# Altium footprint library RSCM17100Kxxx.PcbLib: 1 footprints
Each footprint in its own frame and in the unit in brackets; x right, y up, seen from the top. Pads: shape width x height; smd on the part's side, far side on the other; paste and mask are expansions set on the pad; w line width, h text height; cw(c..) or ccw(c..) is an arc to the next point about the centre after c.
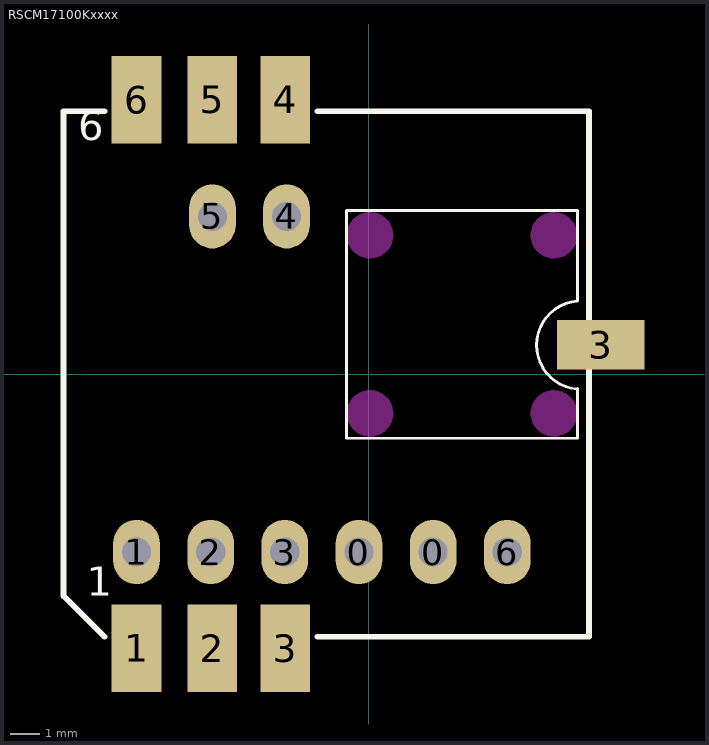
[diagram p0: the footprint, top view; thin cyan lines are the x and y axes]

## RSCM17100Kxxxx [mm]
pads (15):
  oval 1.6x2.2 hole 1: 0(-0.33,-6.1) 0(2.21,-6.1) 1(-7.95,-6.1) 2(-5.41,-6.1) 3(-2.87,-6.1) 4(-2.81,5.4) 5(-5.35,5.4) 6(4.75,-6.1)
  rect 1.7x3 smd: 1(-7.95,-9.4) 2(-5.35,-9.4) 3(-2.85,-9.4) 4(-2.85,9.4) 5(-5.35,9.4) 6(-7.95,9.4)
  rect 3x1.7 smd: 3(7.95,1)
Top Overlay:
  lines w0.1: 7.149,-0.517 cw(c7.269,0.991) 7.15,2.5 7.15,5.6 -0.75,5.6 -0.75,-2.2 7.15,-2.2 7.15,-0.5
  lines w0.2: -9.05,-9 -10.45,-7.6 -10.45,9 -9.05,9 ; -1.75,-9 7.55,-9 7.55,9 -1.75,9
  text "6" at -9.95,8 h1
  text "1" at -9.65,-7.6 h1
Keep-Out Layer:
  circle w0.1: c0.05,4.75 r0.75
  circle w0.1: c6.35,-1.35 r0.75
  circle w0.1: c6.35,4.75 r0.75
  circle w0.1: c0.05,-1.35 r0.75
  board cut-out: -0.706,4.75 -0.681,4.554 -0.605,4.372 -0.485,4.215 -0.328,4.095 -0.146,4.019 0.05,3.994 0.246,4.019 0.428,4.095 0.585,4.215 0.705,4.372 0.781,4.554 0.806,4.75 0.781,4.946 0.705,5.128 0.585,5.285 0.428,5.405 0.246,5.481 0.05,5.506 -0.146,5.481 -0.328,5.405 -0.485,5.285 -0.605,5.128 -0.681,4.946
  board cut-out: 5.594,-1.35 5.619,-1.546 5.695,-1.728 5.815,-1.885 5.972,-2.005 6.154,-2.081 6.35,-2.106 6.546,-2.081 6.728,-2.005 6.885,-1.885 7.005,-1.728 7.081,-1.546 7.106,-1.35 7.081,-1.154 7.005,-0.972 6.885,-0.815 6.728,-0.695 6.546,-0.619 6.35,-0.594 6.154,-0.619 5.972,-0.695 5.815,-0.815 5.695,-0.972 5.619,-1.154
  board cut-out: 5.594,4.75 5.619,4.554 5.695,4.372 5.815,4.215 5.972,4.095 6.154,4.019 6.35,3.994 6.546,4.019 6.728,4.095 6.885,4.215 7.005,4.372 7.081,4.554 7.106,4.75 7.081,4.946 7.005,5.128 6.885,5.285 6.728,5.405 6.546,5.481 6.35,5.506 6.154,5.481 5.972,5.405 5.815,5.285 5.695,5.128 5.619,4.946
  board cut-out: -0.706,-1.35 -0.681,-1.546 -0.605,-1.728 -0.485,-1.885 -0.328,-2.005 -0.146,-2.081 0.05,-2.106 0.246,-2.081 0.428,-2.005 0.585,-1.885 0.705,-1.728 0.781,-1.546 0.806,-1.35 0.781,-1.154 0.705,-0.972 0.585,-0.815 0.428,-0.695 0.246,-0.619 0.05,-0.594 -0.146,-0.619 -0.328,-0.695 -0.485,-0.815 -0.605,-0.972 -0.681,-1.154